# EAGLE library part RF-NANO (library ali_modules)
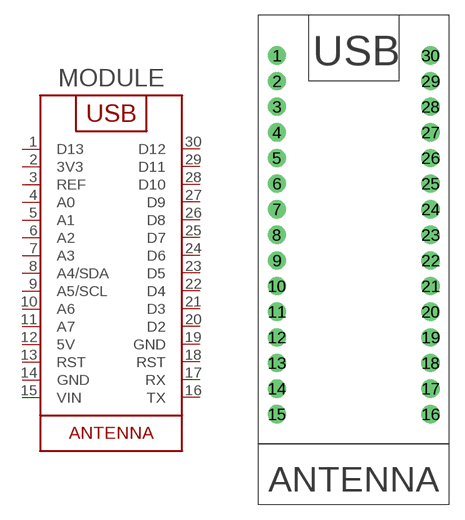
[diagram p9: symbol with the pads of ARDUINO_NANO_NRF24L01; footprint ARDUINO_NANO_NRF24L01]

Designator prefix MODULE

## RF-NANO  [ARDUINO_NANO_NRF24L01]
1  D13
2  3V3
3  REF
4  A0
5  A1
6  A2
7  A3
8  A4/SDA
9  A5/SCL
10  A6
11  A7
12  5V
13  RST
14  GND
15  VIN
16  TX
17  RX
18  RST
19  GND
20  D2
21  D3
22  D4
23  D5
24  D6
25  D7
26  D8
27  D9
28  D10
29  D11
30  D12

## Footprint ARDUINO_NANO_NRF24L01 (pad centres in mm)
drill 1 pad 1.8: 1 -7.62,23; 2 -7.62,20.46; 3 -7.62,17.92; 4 -7.62,15.38; 5 -7.62,12.84; 6 -7.62,10.3; 7 -7.62,7.76; 8 -7.62,5.22; 9 -7.62,2.68; 10 -7.62,0.14; 11 -7.62,-2.4; 12 -7.62,-4.94; 13 -7.62,-7.48; 14 -7.62,-10.02; 15 -7.62,-12.56; 16 7.62,-12.56; 17 7.62,-10.02; 18 7.62,-7.48; 19 7.62,-4.94; 20 7.62,-2.4; 21 7.62,0.14; 22 7.62,2.68; 23 7.62,5.22; 24 7.62,7.76; 25 7.62,10.3; 26 7.62,12.84; 27 7.62,15.38; 28 7.62,17.92; 29 7.62,20.46; 30 7.62,23